# Altium schematic symbol library Power.SchLib: 1 symbol
Pins are listed as number, name and electrical type; pins without a type are passive.

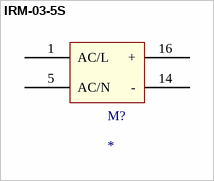
[diagram p0: symbol IRM-03-5S]

## IRM-03-5S
designator M?
footprint IRM-03-5S (Footprint not found)
pins: 1 AC/L, 5 AC/N, 14 -, 16 +